# Altium schematic symbol library RES,43k,1%,0.1W,0402.Schlib: 1 symbol
Pins are listed as number, name and electrical type; pins without a type are passive.

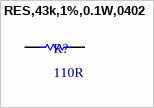
[diagram p0: symbol RES,43k,1%,0.1W,0402]

## RES,43k,1%,0.1W,0402
designator R?, comment 110R
pins: 1, 2